# EAGLE library part TMC2208-LA-T (library ICs)
TMC2202, TMC2208, TMC2224 Step/Dir Drivers for Two-Phase Bipolar Stepper Motors up to 2A peak - StealthChop™ for Quiet Movement - UART Interface Option.
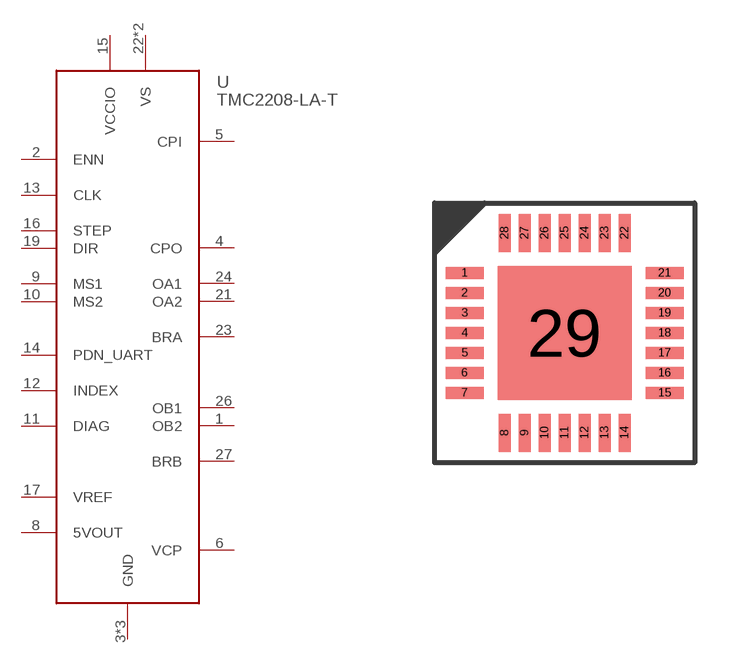
[diagram p332: symbol with the pads of QFN28; footprint QFN28]

Designator prefix U

## TMC2208-LA-T (DIGIKEY: 175-TMC2208-LA-TCT-ND; HEIGHT: 1; PRICE_PER: 2.65; VALUE: TMC2208-LA-T)  [QFN28]
1  OB2
2  ENN
3  GND
4  CPO
5  CPI
6  VCP
8  5VOUT
9  MS1
10  MS2
11  DIAG
12  INDEX
13  CLK
14  PDN_UART
15  VCCIO
16  STEP
17  VREF
18  GND
19  DIR
21  OA2
22  VS
23  BRA
24  OA1
26  OB1
27  BRB
28  VS
29  GND

## Footprint QFN28 (pad centres in mm)
smd 0.95 x 0.3: 1 -2.5,1.5; 2 -2.5,1; 3 -2.5,0.5; 4 -2.5,0; 5 -2.5,-0.5; 6 -2.5,-1; 7 -2.5,-1.5; 15 2.5,-1.5; 16 2.5,-1; 17 2.5,-0.5; 18 2.5,0; 19 2.5,0.5; 20 2.5,1; 21 2.5,1.5
smd 0.3 x 0.95: 8 -1.5,-2.5; 9 -1,-2.5; 10 -0.5,-2.5; 11 0,-2.5; 12 0.5,-2.5; 13 1,-2.5; 14 1.5,-2.5; 22 1.5,2.5; 23 1,2.5; 24 0.5,2.5; 25 0,2.5; 26 -0.5,2.5; 27 -1,2.5; 28 -1.5,2.5
smd 3.35 x 3.35: 29 0,0